# EAGLE library part ICSP_HEADER (library Cing Library)
Arduino ICSP I/O Header This is the ICSP I/O header on the Arduino Uno R3. This connector is labeled with the following pin assignments: MISO +5V SCK MOSI RESET GND NOTE: Be sure you install this connector with the correct orientation on your PCB layout. Pin 1 has a square pad to assist with orientation.
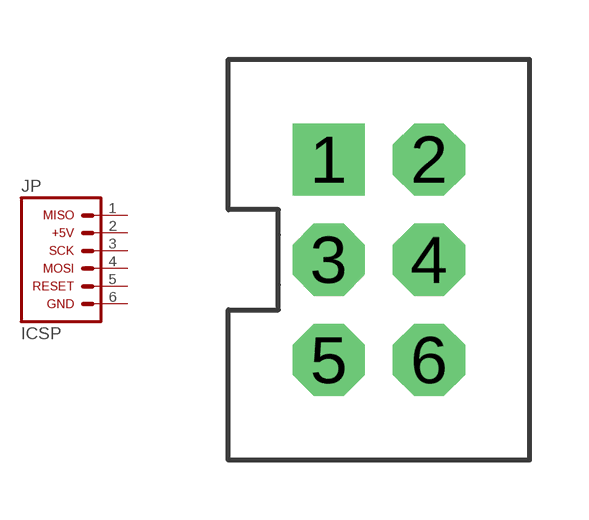
[diagram p10: symbol with the pads of ICSP_HEADER; footprint ICSP_HEADER]

Designator prefix JP

## ICSP_HEADER  [ICSP_HEADER]
1  1  pas
2  2  pas
3  3  pas
4  4  pas
5  5  pas
6  6  pas

## Footprint ICSP_HEADER (pad centres in mm)
2x3 DIP header with pin 1 marked by a square pad.
drill 1.2 pad 1.829 square: 1 -1.27,2.54
drill 1.2 pad 1.829 octagon: 2 1.27,2.54; 3 -1.27,0; 4 1.27,0; 5 -1.27,-2.54; 6 1.27,-2.54